# EAGLE library part 315-5235 (library 2010.09.20)
Sega 315-5235 Paging Chip Overview The 315-5235 is a memory mapper manufactured by Sega. It comes in a 42-pin plastic DIP. 315-5235 paging chip can handle up to 32 × 16KByte memory pages, and is suitable for 4 Megabit games ie: Phantasy Star. Features ROM capacity of 512K ROM banking in $0400-$3FFF ROM banking in $4000-$7FFF ROM banking in $8000-$BFFF SRAM support in $8000-$BFFF SRAM support in $C000-$FFFF ROM bank shifting Pin assignment notes Pin 28 is always high. Maybe an input, normally left unconnected. Pin 27 is likely another ground input, doesn't seem to function as a mode select. Pin functions /ROM0 = Asserted for reads from ROM banks: $00-$07 (1M mode) $00-$1F (4M mode) /ROM1 = Asserted for reads from ROM banks: $08-$0F (1M mode) $00-$0F (4M mode) /ROM2 = Asserted for reads from ROM banks: $10-$1F (1M mode) $10-$1F (4M mode) RAM /CE = Asserted for work RAM access when bit 4 of $FFFC is reset. SRAM /CS = Asserted for SRAM access when mapped to $8000-$BFFF or $C000-$FFFF /GWR = Follows Z80 /WR, disabled when bit 7 of $FFFC is set. BA18-14 = Banked ROM address bits 18-14 MODE = ROM size mode, tie to +5V for 128K (1M) or ground for 512K (4M). The /ROMx signals are valid for accesses within $0000-$BFFF, or $0000-$7FFF when SRAM is enabled in $8000-$BFFF. SRAM access The bank number specified in $FFFF is still valid when SRAM is enabled within $8000-$BFFF, it will not be reset or otherwise modified. During access to $8000-$BFFF with SRAM enabled, BA18-BA15 output the bank number bits just like a regular ROM access. The exception is BA14 which is set to the value specified in $FFFC bit 2 to support SRAM banking. SRAM cannot be banked within $C000-$FFFF, BA14 is forced high. If 32K of SRAM was available, this would allow for a linear mapping of it from $8000-$FFFF if $FFFC had bits 4,3 set. During SRAM access the /ROMx strobes are not active, so the state of BA18-BA15 at that time is irrelevant. Mappper overview Depending on the ROM size mode selected, the following configurations can be used: 128K (1M) 512K (4M) /ROM0 128K or smaller 512K or smaller /ROM1 128K or smaller 256K or smaller /ROM2 256K or smaller 256K or smaller The total capacity for either mode is 512K, split across different ROM sizes. The /ROMx signals are output enable strobes, so ROMs should have their /CS inputs tied to ground and /OE to /ROMx. RAM /CE seems to be specific for the Japanese SMS or Mark-III hardware, which may (like the SC-3000H) have a dedicated work RAM disable pin on the cartridge connector. RAM /CE would facilitate disabling it automatically when cartridge SRAM was mapped to $C000-$FFFF. For a export (US/European) console, work RAM has to be manually disabled through bit 4 of I/O port $3E. /GWR also isn't used anywhere, though the official system documentation mentions it needs to be cleared for commercial (ROM-based) software and set for development. Presumably the development board hardware uses RAMs connected to /GWR for uploading program code. When /RESET is asserted, the registers are initialized as follows: $FFFC = $00 $FFFD = $00 $FFFE = $01 $FFFF = $02 Signal timing /ROM2-0 = Same as Z80 /RD pulse width RAM /CE = Same as Z80 /WR or Z80 /RD pulse width /GWR = Same as Z80 /WR pulse width SRAM /CS = Same as /MREQ pulse width BA18-BA14 = Output change is triggered on Z80 A15-14 edge transition Register functions $FFFC - Control register D7 : 1= /GWR disabled (write protect), 0= /GWR enabled (write enable) D4 : 1= SRAM mapped to $C000-$FFFF (*1) D3 : 1= SRAM mapped to $8000-$BFFF, 0= ROM mapped to $8000-$BFFF D2 : SRAM banking; BA14 state when $8000-$BFFF is accessed (1= high, 0= low) D1 : Bank shift, bit 1 D0 : Bank shift, bit 0 The bank shift adds a constant to the bank number, wrapping at $1F to form a new bank number. D1 D0 0 0 : Add $00 (banks $00-$1F map to $00-$07,$08-$0F,$10-$17,$18-$1F) 0 1 : Add $18 (banks $00-$1F map to $18-$1F,$00-$07,$08-$0F,$10-$17) 1 0 : Add $10 (banks $00-$1F map to $10-$17,$18-$1F,$00-$07,$08-$0F) 1 1 : Add $08 (banks $00-$1F map to $08-$0F,$10-$17,$18-$1F,$00-$07) When the bank shift is set, none of the existing bank values in $FFFD-$FFFF are updated - the old values written are still latched. As soon as *any* bank select register is written to, then *all* registers are shifted. So generally speaking you cannot shift banks individually (it's all or none) and at least one register must be rewritten for the new bank shift value to take effect. The first 1K of ROM is always mapped to $0000-$03FF regardless of the bank number in $FFFD or the bank shift value. $FFFD - Bank select for $0400-$3FFF D7 : Unused D4 : Bank address, bit 18 D3 : Bank address, bit 17 D2 : Bank address, bit 16 D1 : Bank address, bit 15 D0 : Bank address, bit 14 $FFFE - Bank select for $4000-$7FFF D7 : Unused D4 : Bank address, bit 18 D3 : Bank address, bit 17 D2 : Bank address, bit 16 D1 : Bank address, bit 15 D0 : Bank address, bit 14 $FFFF - Bank select for $8000-$BFFF D7 : Unused D4 : Bank address, bit 18 D3 : Bank address, bit 17 D2 : Bank address, bit 16 D1 : Bank address, bit 15 D0 : Bank address, bit 14 Information in this document <http://www.smspower.org/Development/SMSPagingChips#The3155235PagingChip> is compiled from postings by Mike G. and Charles Mac Donald on the S8-Dev Forum <http://www.smspower.org/forums/viewforum.php?f=3&sid=bd04805781e762a1d000575466c5f495>, and from personal investigations by Zoop and Eric Quinn. Drawn by Darren Lue Choy 2010.09.20 Additional information from an unpublished work by (Charles MacDonald) taken from his website (http://cgfm2.emuviews.com/) added 2011.01.19
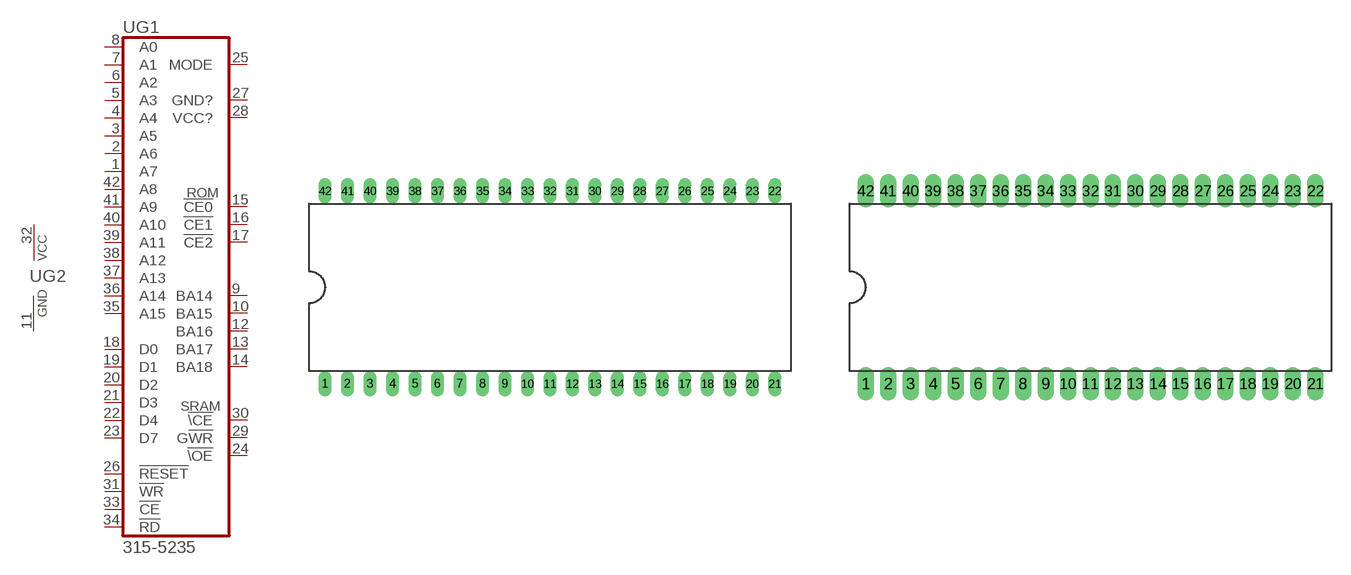
[diagram p3: symbol with the pads of DIL42-6.07.SMDRILL; footprints DIL42-6.07.SMDRILL, DIL42-6.07]

Designator prefix -; gates G1=315-5235 G2=PWRN

## 315-5235SMALLDRILL  [DIL42-6.07.SMDRILL]
1  G1:A7  in
2  G1:A6  in
3  G1:A5  in
4  G1:A4  in
5  G1:A3  in
6  G1:A2  in
7  G1:A1  in
8  G1:A0  in
9  G1:BA14  out
10  G1:BA15  out
11  G2:GND  pwr
12  G1:BA16  out
13  G1:BA17  out
14  G1:BA18  out
15  G1:!CE0  out
16  G1:!CE1  out
17  G1:!CE2  out
18  G1:D0  in
19  G1:D1  in
20  G1:D2  in
21  G1:D3  in
22  G1:D4  in
23  G1:D7  in
24  G1:!\OE  out
25  G1:MODE  in
26  G1:!RESET  in
27  G1:GND?  in
28  G1:VCC?
29  G1:G!WR  out
30  G1:!\CE  out
31  G1:!WR  in
32  G2:VCC  pwr
33  G1:!CE  in
34  G1:!RD  in
35  G1:A15  in
36  G1:A14  in
37  G1:A13  in
38  G1:A12  in
39  G1:A11  in
40  G1:A10  in
41  G1:A9  in
42  G1:A8  in

## 315-5235  [DIL42-6.07]
Pads as for DIL42-6.07.SMDRILL

## Footprint DIL42-6.07.SMDRILL (pad centres in mm)
Dual In Line Package 0.6 inch 0.07 pitch Drawn by D Lue Choy µ 2010.09.20
drill 0.5 long: 1 -17.78,-7.62; 2 -16.002,-7.62; 3 -14.224,-7.62; 4 -12.446,-7.62; 5 -10.668,-7.62; 6 -8.89,-7.62; 7 -7.112,-7.62; 8 -5.334,-7.62; 9 -3.556,-7.62; 10 -1.778,-7.62; 11 0,-7.62; 12 1.778,-7.62; 13 3.556,-7.62; 14 5.334,-7.62; 15 7.112,-7.62; 16 8.89,-7.62; 17 10.668,-7.62; 18 12.446,-7.62; 19 14.224,-7.62; 20 16.002,-7.62; 21 17.78,-7.62; 22 17.78,7.62; 23 16.002,7.62; 24 14.224,7.62; 25 12.446,7.62; 26 10.668,7.62; 27 8.89,7.62; 28 7.112,7.62; 29 5.334,7.62; 30 3.556,7.62; 31 1.778,7.62; 32 0,7.62; 33 -1.778,7.62; 34 -3.556,7.62; 35 -5.334,7.62; 36 -7.112,7.62; 37 -8.89,7.62; 38 -10.668,7.62; 39 -12.446,7.62; 40 -14.224,7.62; 41 -16.002,7.62; 42 -17.78,7.62

## Footprint DIL42-6.07 (pad centres in mm)
Dual In Line Package 0.6 inch 0.07 pitch Drawn by D Lue Choy µ 2010.09.20
drill 0.813 long: 1 -17.78,-7.62; 2 -16.002,-7.62; 3 -14.224,-7.62; 4 -12.446,-7.62; 5 -10.668,-7.62; 6 -8.89,-7.62; 7 -7.112,-7.62; 8 -5.334,-7.62; 9 -3.556,-7.62; 10 -1.778,-7.62; 11 0,-7.62; 12 1.778,-7.62; 13 3.556,-7.62; 14 5.334,-7.62; 15 7.112,-7.62; 16 8.89,-7.62; 17 10.668,-7.62; 18 12.446,-7.62; 19 14.224,-7.62; 20 16.002,-7.62; 21 17.78,-7.62; 22 17.78,7.62; 23 16.002,7.62; 24 14.224,7.62; 25 12.446,7.62; 26 10.668,7.62; 27 8.89,7.62; 28 7.112,7.62; 29 5.334,7.62; 30 3.556,7.62; 31 1.778,7.62; 32 0,7.62; 33 -1.778,7.62; 34 -3.556,7.62; 35 -5.334,7.62; 36 -7.112,7.62; 37 -8.89,7.62; 38 -10.668,7.62; 39 -12.446,7.62; 40 -14.224,7.62; 41 -16.002,7.62; 42 -17.78,7.62